# Altium schematic symbol library AL8843QSP-13.Schlib: 1 symbol
Pins are listed as number, name and electrical type; pins without a type are passive.

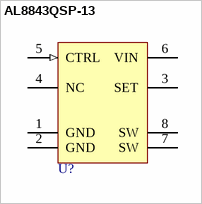
[diagram p0: symbol AL8843QSP-13]

## AL8843QSP-13
designator U?
40V 3A STEP-DOWN LED DRIVER
pins: 1 GND (power), 2 GND (power), 3 SET, 4 NC, 5 CTRL (in), 6 VIN (power), 7 SW (power), 8 SW (power)